# Altium integrated library ECMF02-2AMX6.IntLib: 1 symbol
Pins are listed as number, name and electrical type; pins without a type are passive.

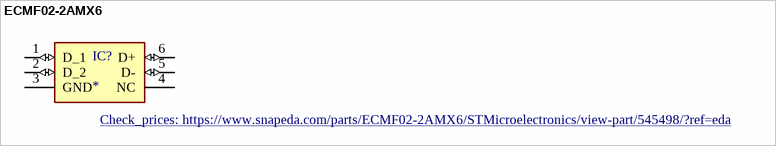
[diagram p0: symbol ECMF02-2AMX6]

## ECMF02-2AMX6
designator IC?
2 Line Common Mode Choke Surface Mount 200mA DCR 2.5Ohm; MP: ECMF02-2AMX6; MF: STMicroelectronics; Value: *; Purchase-URL: https://pricing.snapeda.com/search/part/ECMF02-2AMX6/?ref=eda; Availability: Good; Package: UFQFN-6 STMicroelectronics; Price: None; SnapEDA_Link: https://www.snapeda.com/parts/ECMF02-2AMX6/STMicroelectronics/view-part/545498/?ref=snap; Check_prices: https://www.snapeda.com/parts/ECMF02-2AMX6/STMicroelectronics/view-part/545498/?ref=eda
footprint SON50P150X170X55-6N
pins: 1 D_1 (io), 2 D_2 (io), 3 GND (power), 4 NC, 5 D- (io), 6 D+ (io)